# Altium footprint library CustomComponents.PcbLib: 9 footprints
Each footprint in its own frame and in the unit in brackets; x right, y up, seen from the top. Pads: shape width x height; smd on the part's side, far side on the other; paste and mask are expansions set on the pad; w line width, h text height; cw(c..) or ccw(c..) is an arc to the next point about the centre after c.
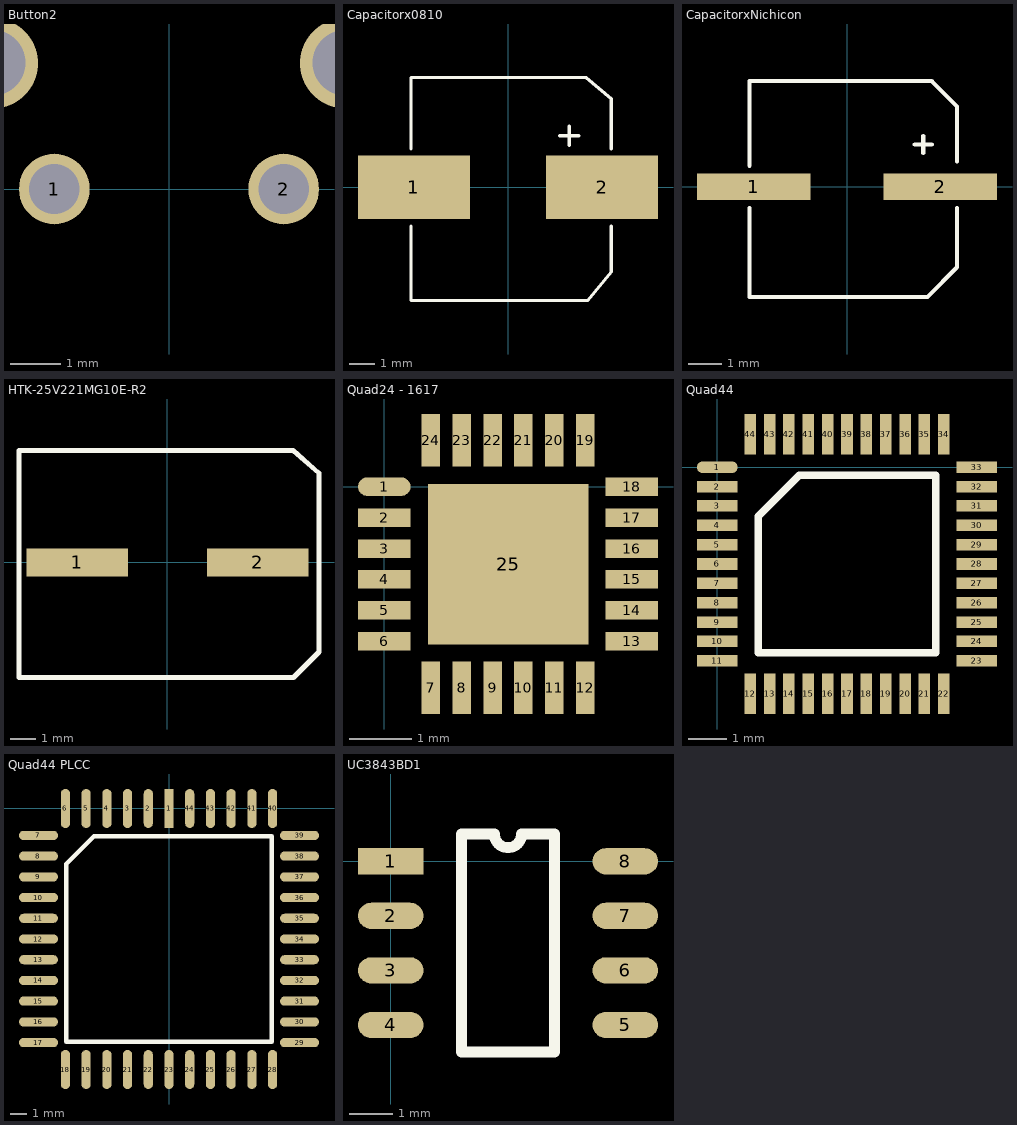
[diagram p0: the footprints below, top view; thin cyan lines are the x and y axes]

## button [mm]

## Button2 [mm]
pads (2):
  round 1.4 hole 1: 1(-2.275,0) 2(2.275,0)
via -3.5,2.5 diameter 1.8 hole 1.3
via 3.5,2.5 diameter 1.8 hole 1.3

## Capacitorx0810 [mm]
pads (2):
  rect 4.4x2.5 smd: 1(-3.7,0) 2(3.7,0)
Top Overlay:
  lines w0.127: -3.81,-1.524 -3.81,-4.445 3.133,-4.445 4.064,-3.327 4.064,-1.524 ; -3.81,1.524 -3.81,4.318 3.073,4.318 4.064,3.492 4.064,1.524 ; 2.032,2.032 2.794,2.032 ; 2.413,1.651 2.413,1.905 2.413,2.413

## CapacitorxNichicon [mm]
pads (2):
  rect 3.4x0.8 smd: 1(-2.8,0) 2(2.8,0)
Top Overlay:
  lines w0.127: -2.921,-0.635 -2.921,-3.302 2.413,-3.302 3.302,-2.413 3.302,-0.635 ; -2.921,0.635 -2.921,3.175 2.54,3.175 3.302,2.413 3.302,0.762 ; 2.032,1.27 2.54,1.27 ; 2.286,1.016 2.286,1.524

## HTK-25V221MG10E-R2 [mm]
pads (2):
  rect 4x1.1 smd: 1(-3.55,0) 2(3.55,0)
Top Overlay:
  lines w0.178: 4.953,4.405 5.969,3.508
  lines w0.2: 4.953,4.405 3.125,4.405 -3.958,4.405 -5.842,4.405 -5.842,0 -5.842,-4.532 -3.958,-4.532 3.125,-4.532 4.965,-4.532 5.969,-3.528 5.969,-1.769 5.969,1.749 5.969,3.508

## Quad24 - 1617 [mm]
pads (25):
  oval 0.85x0.3 smd: 1(0,0)
  rect 0.85x0.3 smd: 2(0,-0.5) 3(0,-1) 4(0,-1.5) 5(0,-2) 6(0,-2.5) 13(4,-2.5) 14(4,-2) 15(4,-1.5) 16(4,-1) 17(4,-0.5) 18(4,0)
  rect 0.3x0.85 smd: 7(0.75,-3.25) 8(1.25,-3.25) 9(1.75,-3.25) 10(2.25,-3.25) 11(2.75,-3.25) 12(3.25,-3.25) 19(3.25,0.75) 20(2.75,0.75) 21(2.25,0.75) 22(1.75,0.75) 23(1.25,0.75) 24(0.75,0.75)
  rect 2.6x2.6 smd: 25(2.005,-1.255)

## Quad44 [mm]
pads (44):
  oval 1.05x0.3 smd: 1(0,0)
  rect 1.05x0.3 smd: 2(0,-0.5) 3(0,-1) 4(0,-1.5) 5(0,-2) 6(0,-2.5) 7(0,-3) 8(0,-3.5) 9(0,-4) 10(0,-4.5) 11(0,-5) 23(6.7,-5) 24(6.7,-4.5) 25(6.7,-4) 26(6.7,-3.5) 27(6.7,-3) 28(6.7,-2.5) 29(6.7,-2) 30(6.7,-1.5) 31(6.7,-1) 32(6.7,-0.5) 33(6.7,0)
  rect 0.3x1.05 smd: 12(0.85,-5.85) 13(1.35,-5.85) 14(1.85,-5.85) 15(2.35,-5.85) 16(2.85,-5.85) 17(3.35,-5.85) 18(3.85,-5.85) 19(4.35,-5.85) 20(4.85,-5.85) 21(5.35,-5.85) 22(5.85,-5.85) 34(5.85,0.85) 35(5.35,0.85) 36(4.85,0.85) 37(4.35,0.85) 38(3.85,0.85) 39(3.35,0.85) 40(2.85,0.85) 41(2.35,0.85) 42(1.85,0.85) 43(1.35,0.85) 44(0.85,0.85)
Top Overlay:
  lines w0.2: 1.06,-4.79 5.64,-4.79 5.64,-0.21 2.12,-0.21 1.06,-1.27 1.06,-4.79

## Quad44 PLCC [mil]
pads (44):
  rect 22x94 smd: 1(0,0)
  oval 22x94 smd: 2(-50,0) 3(-100,0) 4(-150,0) 5(-200,0) 6(-250,0) 18(-250,-630) 19(-200,-630) 20(-150,-630) 21(-100,-630) 22(-50,-630) 23(0,-630) 24(50,-630) 25(100,-630) 26(150,-630) 27(200,-630) 28(250,-630) 40(250,0) 41(200,0) 42(150,0) 43(100,0) 44(50,0)
  oval 94x22 smd: 7(-315,-65) 8(-315,-115) 9(-315,-165) 10(-315,-215) 11(-315,-265) 12(-315,-315) 13(-315,-365) 14(-315,-415) 15(-315,-465) 16(-315,-515) 17(-315,-565) 29(315,-565) 30(315,-515) 31(315,-465) 32(315,-415) 33(315,-365) 34(315,-315) 35(315,-265) 36(315,-215) 37(315,-165) 38(315,-115) 39(315,-65)
Top Overlay:
  lines w10: -248,-563 248,-563 248,-67 -181,-67 -248,-134 -248,-563

## UC3843BD1 [mil]
pads (8):
  rect 60x24 smd: 1(0,0)
  oval 60x24 smd: 2(0,-50) 3(0,-100) 4(0,-150) 5(215,-150) 6(215,-100) 7(215,-50) 8(215,0)
Top Overlay:
  lines w10: 65,-175 65,25 95,25 ccw(c107.5,25) 120,25 150,25 150,-175 65,-175